# Altium schematic symbol library p-mosfet_GxSD.Schlib: 1 symbol
Pins are listed as number, name and electrical type; pins without a type are passive.

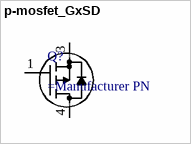
[diagram p0: symbol p-mosfet_GxSD]

## p-mosfet_GxSD
designator Q?
pins: 1 G, 3 S, 4 D